# Altium schematic symbol library Inductor.SchLib: 9 symbols
Pins are listed as number, name and electrical type; pins without a type are passive.

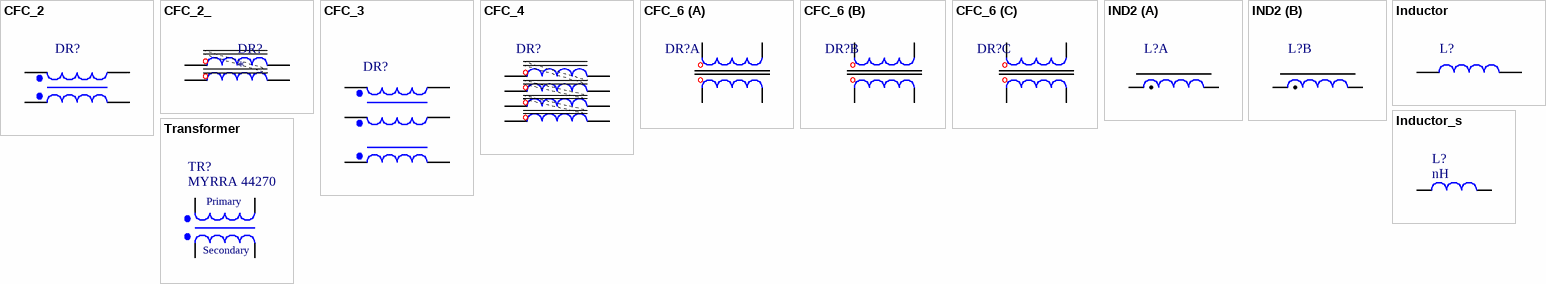
[diagram p0: symbols CFC_2 to Transformer]

## CFC_2
designator DR?  (value not drawn)
Cast Filter Choke
pins: 1, 2, 3, 4

## CFC_2_
designator DR?
Castle Filter Choke; Catalog: Farnell; Catalog number: 975-2285; Catalog page: 377
pins: 1, 2, 3, 4

## CFC_3
designator DR?  (value not drawn)
Cast Filter Choke
pins: 1, 2, 3, 4, 5, 6

## CFC_4
designator DR?  (value not drawn)
Cast Filter Chocke; Catalog: Farnell; Catalog number: 975-2277; Catalog page: 377; Value: *
footprint UL94V-0 (CFC_4L)
pins: 1, 2, 3, 4, 5, 6, 7, 8

## CFC_6
designator DR?  (value not drawn)
Cast Filter Chocke; Catalog: Elfa; Catalog number: 58-121-10; Value: *
footprint VP2 CFC (Chocke/Transformer)
part A pins: 1, 4, 7, 10
part B pins: 2, 5, 8, 11
part C pins: 3, 6, 9, 12

## IND2
designator L?
Cast Filter Chocke; Catalog: Elfa; Catalog number: 58-121-10; Value: *
footprint SOP4-12.8mm
part A pins: 1, 3
part B pins: 2, 4

## Inductor
designator L?, comment 1.0mkH  (value not drawn)
L SMD LQH55; Value: *; Catalog number: *; Catalog: *
pins: 1, 2

## Inductor_s
designator L?, comment nH
L SMD; Catalog number: *; Catalog: *; Value: nH
pins: 1, 2

## Transformer
designator TR?  value MYRRA 44270  (hidden comment: Transformer)
MYRRA 44270; Catalog: Farnell; Catalog number: 1689091; Price: *
footprint TR MYRRA 44274
pins: 1, 6, 8, 11
text: Primary; Secondary